# EAGLE library part SI3456BDV (library m-pad)
Vishay Siliconix Si3456BDVY N-Channel 30-V (D-S) MOSFET FEATURES: TrenchFET Power MOSFET 100% Rg Tested Please send any comments to: messi@users.sourceforge.net
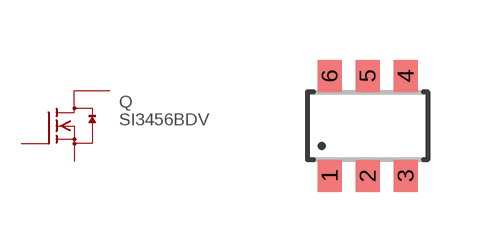
[diagram p109: symbol with the pads of SOT23-6; footprint SOT23-6]

Designator prefix Q

## SI3456BDVSOT-5-6  [SOT23-6]
1  D  pas
2  D  pas
3  G  pas
4  S  pas
5  D  pas
6  D  pas

## Footprint SOT23-6 (pad centres in mm)
Small Outline Transistor 6 lead
smd 0.6 x 0.8: 1 -0.95,-1.25; 2 0,-1.25; 3 0.95,-1.25; 4 0.95,1.25; 5 0,1.25; 6 -0.95,1.25